# Altium schematic symbol library SparkFun-PowerIC.SCHLIB: 114 symbols
Pins are listed as number, name and electrical type; pins without a type are passive.

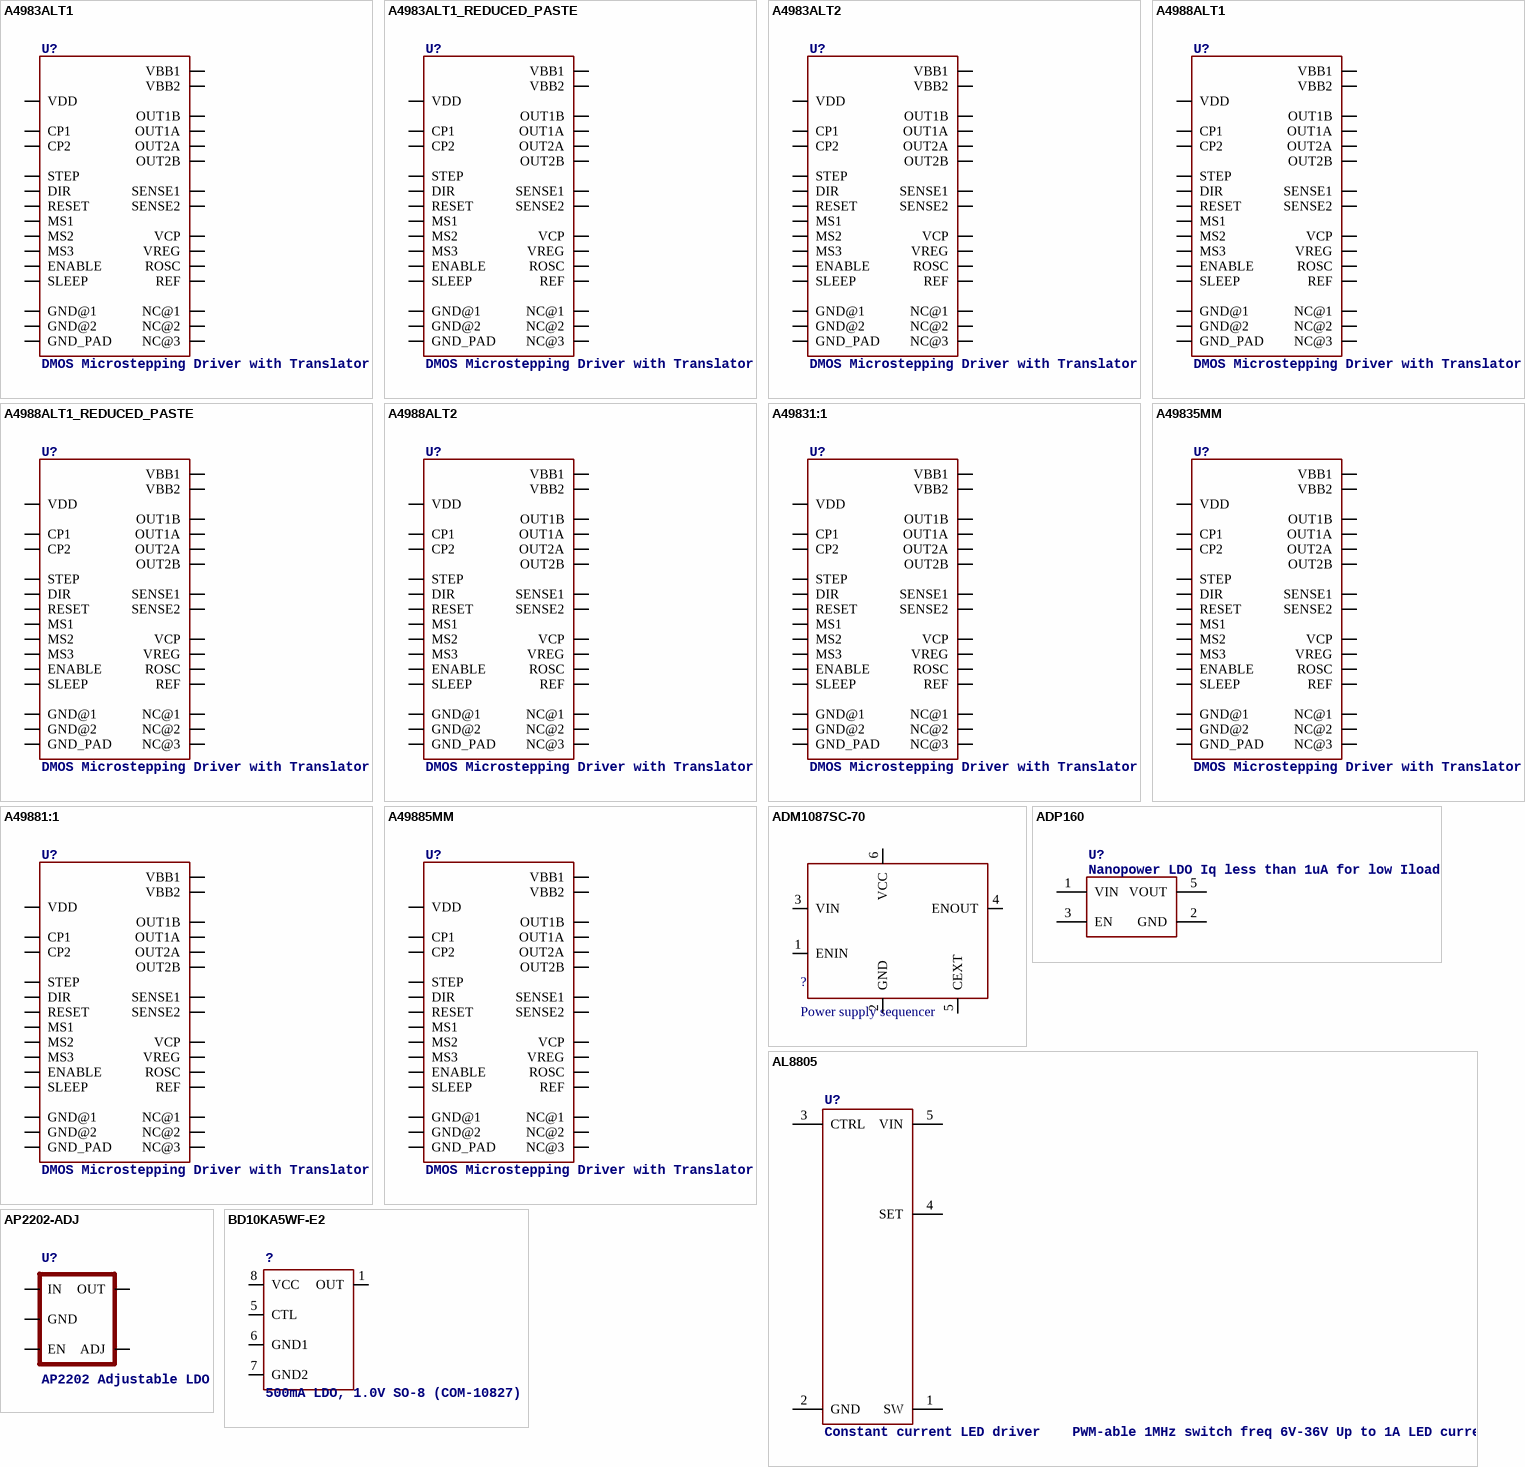
[diagram p0: symbols A4983ALT1 to BD10KA5WF-E2]

## A4983ALT1
designator U?, comment DMOS Microstepping Driver with Translator
PROD_ID: IC-09890
footprint QFN-28-5MM_ALT1
pins: P$1 OUT2B, P$2 ENABLE, P$3 GND@1 (power), P$4 CP1, P$5 CP2, P$6 VCP, P$7 NC@1, P$8 VREG, P$9 MS1, P$10 MS2, P$11 MS3, P$12 RESET, P$13 ROSC, P$14 SLEEP, P$15 VDD (power), P$16 STEP, P$17 REF, P$18 GND@2 (power), P$19 DIR, P$20 NC@2, P$21 OUT1B, P$22 VBB1, P$23 SENSE1, P$24 OUT1A, P$25 NC@3, P$26 OUT2A, P$27 SENSE2, P$28 VBB2, P$29 GND_PAD (power)

## A4983ALT1_REDUCED_PASTE
designator U?, comment DMOS Microstepping Driver with Translator
PROD_ID: IC-09890
footprint QFN-28-5MM_ALT1_REDUCED_PASTE
pins: P$1 OUT2B, P$2 ENABLE, P$3 GND@1 (power), P$4 CP1, P$5 CP2, P$6 VCP, P$7 NC@1, P$8 VREG, P$9 MS1, P$10 MS2, P$11 MS3, P$12 RESET, P$13 ROSC, P$14 SLEEP, P$15 VDD (power), P$16 STEP, P$17 REF, P$18 GND@2 (power), P$19 DIR, P$20 NC@2, P$21 OUT1B, P$22 VBB1, P$23 SENSE1, P$24 OUT1A, P$25 NC@3, P$26 OUT2A, P$27 SENSE2, P$28 VBB2, P$29 GND_PAD (power)

## A4983ALT2
designator U?, comment DMOS Microstepping Driver with Translator
footprint QFN-28-5MM_ALT2
pins: P$1 OUT2B, P$2 ENABLE, P$3 GND@1 (power), P$4 CP1, P$5 CP2, P$6 VCP, P$7 NC@1, P$8 VREG, P$9 MS1, P$10 MS2, P$11 MS3, P$12 RESET, P$13 ROSC, P$14 SLEEP, P$15 VDD (power), P$16 STEP, P$17 REF, P$18 GND@2 (power), P$19 DIR, P$20 NC@2, P$21 OUT1B, P$22 VBB1, P$23 SENSE1, P$24 OUT1A, P$25 NC@3, P$26 OUT2A, P$27 SENSE2, P$28 VBB2, P$29 GND_PAD (power)

## A4988ALT1
designator U?, comment DMOS Microstepping Driver with Translator
PROD_ID: IC-11483
footprint QFN-28-5MM_ALT1
pins: P$1 OUT2B, P$2 ENABLE, P$3 GND@1 (power), P$4 CP1, P$5 CP2, P$6 VCP, P$7 NC@1, P$8 VREG, P$9 MS1, P$10 MS2, P$11 MS3, P$12 RESET, P$13 ROSC, P$14 SLEEP, P$15 VDD (power), P$16 STEP, P$17 REF, P$18 GND@2 (power), P$19 DIR, P$20 NC@2, P$21 OUT1B, P$22 VBB1, P$23 SENSE1, P$24 OUT1A, P$25 NC@3, P$26 OUT2A, P$27 SENSE2, P$28 VBB2, P$29 GND_PAD (power)

## A4988ALT1_REDUCED_PASTE
designator U?, comment DMOS Microstepping Driver with Translator
PROD_ID: IC-11483
footprint QFN-28-5MM_ALT1_REDUCED_PASTE
pins: P$1 OUT2B, P$2 ENABLE, P$3 GND@1 (power), P$4 CP1, P$5 CP2, P$6 VCP, P$7 NC@1, P$8 VREG, P$9 MS1, P$10 MS2, P$11 MS3, P$12 RESET, P$13 ROSC, P$14 SLEEP, P$15 VDD (power), P$16 STEP, P$17 REF, P$18 GND@2 (power), P$19 DIR, P$20 NC@2, P$21 OUT1B, P$22 VBB1, P$23 SENSE1, P$24 OUT1A, P$25 NC@3, P$26 OUT2A, P$27 SENSE2, P$28 VBB2, P$29 GND_PAD (power)

## A4988ALT2
designator U?, comment DMOS Microstepping Driver with Translator
footprint QFN-28-5MM_ALT2
pins: P$1 OUT2B, P$2 ENABLE, P$3 GND@1 (power), P$4 CP1, P$5 CP2, P$6 VCP, P$7 NC@1, P$8 VREG, P$9 MS1, P$10 MS2, P$11 MS3, P$12 RESET, P$13 ROSC, P$14 SLEEP, P$15 VDD (power), P$16 STEP, P$17 REF, P$18 GND@2 (power), P$19 DIR, P$20 NC@2, P$21 OUT1B, P$22 VBB1, P$23 SENSE1, P$24 OUT1A, P$25 NC@3, P$26 OUT2A, P$27 SENSE2, P$28 VBB2, P$29 GND_PAD (power)

## A49831:1
designator U?, comment DMOS Microstepping Driver with Translator
footprint QFN-28-5MM-1:1
pins: P$1 OUT2B, P$2 ENABLE, P$3 GND@1 (power), P$4 CP1, P$5 CP2, P$6 VCP, P$7 NC@1, P$8 VREG, P$9 MS1, P$10 MS2, P$11 MS3, P$12 RESET, P$13 ROSC, P$14 SLEEP, P$15 VDD (power), P$16 STEP, P$17 REF, P$18 GND@2 (power), P$19 DIR, P$20 NC@2, P$21 OUT1B, P$22 VBB1, P$23 SENSE1, P$24 OUT1A, P$25 NC@3, P$26 OUT2A, P$27 SENSE2, P$28 VBB2, P$29 GND_PAD (power)

## A49835MM
designator U?, comment DMOS Microstepping Driver with Translator
footprint QFN-28-5MM
pins: P$1 OUT2B, P$2 ENABLE, P$3 GND@1 (power), P$4 CP1, P$5 CP2, P$6 VCP, P$7 NC@1, P$8 VREG, P$9 MS1, P$10 MS2, P$11 MS3, P$12 RESET, P$13 ROSC, P$14 SLEEP, P$15 VDD (power), P$16 STEP, P$17 REF, P$18 GND@2 (power), P$19 DIR, P$20 NC@2, P$21 OUT1B, P$22 VBB1, P$23 SENSE1, P$24 OUT1A, P$25 NC@3, P$26 OUT2A, P$27 SENSE2, P$28 VBB2, P$29 GND_PAD (power)

## A49881:1
designator U?, comment DMOS Microstepping Driver with Translator
footprint QFN-28-5MM-1:1
pins: P$1 OUT2B, P$2 ENABLE, P$3 GND@1 (power), P$4 CP1, P$5 CP2, P$6 VCP, P$7 NC@1, P$8 VREG, P$9 MS1, P$10 MS2, P$11 MS3, P$12 RESET, P$13 ROSC, P$14 SLEEP, P$15 VDD (power), P$16 STEP, P$17 REF, P$18 GND@2 (power), P$19 DIR, P$20 NC@2, P$21 OUT1B, P$22 VBB1, P$23 SENSE1, P$24 OUT1A, P$25 NC@3, P$26 OUT2A, P$27 SENSE2, P$28 VBB2, P$29 GND_PAD (power)

## A49885MM
designator U?, comment DMOS Microstepping Driver with Translator
footprint QFN-28-5MM
pins: P$1 OUT2B, P$2 ENABLE, P$3 GND@1 (power), P$4 CP1, P$5 CP2, P$6 VCP, P$7 NC@1, P$8 VREG, P$9 MS1, P$10 MS2, P$11 MS3, P$12 RESET, P$13 ROSC, P$14 SLEEP, P$15 VDD (power), P$16 STEP, P$17 REF, P$18 GND@2 (power), P$19 DIR, P$20 NC@2, P$21 OUT1B, P$22 VBB1, P$23 SENSE1, P$24 OUT1A, P$25 NC@3, P$26 OUT2A, P$27 SENSE2, P$28 VBB2, P$29 GND_PAD (power)

## ADM1087SC-70
designator ?, comment Power supply sequencer
footprint SC-70
pins: 1 ENIN, 2 GND, 3 VIN, 4 ENOUT, 5 CEXT, 6 VCC

## ADP160
designator U?, comment Nanopower LDO Iq less than 1uA for low Iload
PROD_ID: VREG-11306
footprint SOT23-5
pins: 1 VIN, 2 GND, 3 EN, 5 VOUT

## AL8805
designator U?, comment Constant current LED driver    PWM-able 1MHz switch freq 6V-36V Up to 1A LED current
PROD_ID: IC-11626
footprint SOT23-5
pins: 1 SW, 2 GND, 3 CTRL, 4 SET, 5 VIN

## AP2202-ADJ
designator U?, comment AP2202 Adjustable LDO Diodes Inc small, low-cost LDO 150mA, 13.2V, less than 200mV dropout
PROD_ID: VREG-12189
footprint SOT23-5
pins: 1 IN, 2 GND, 3 EN, 4 ADJ, 5 OUT

## BD10KA5WF-E2
designator ?, comment 500mA LDO, 1.0V SO-8 (COM-10827)
footprint SO08WIDE
pins: 1 OUT, 5 CTL, 6 GND1, 7 GND2, 8 VCC

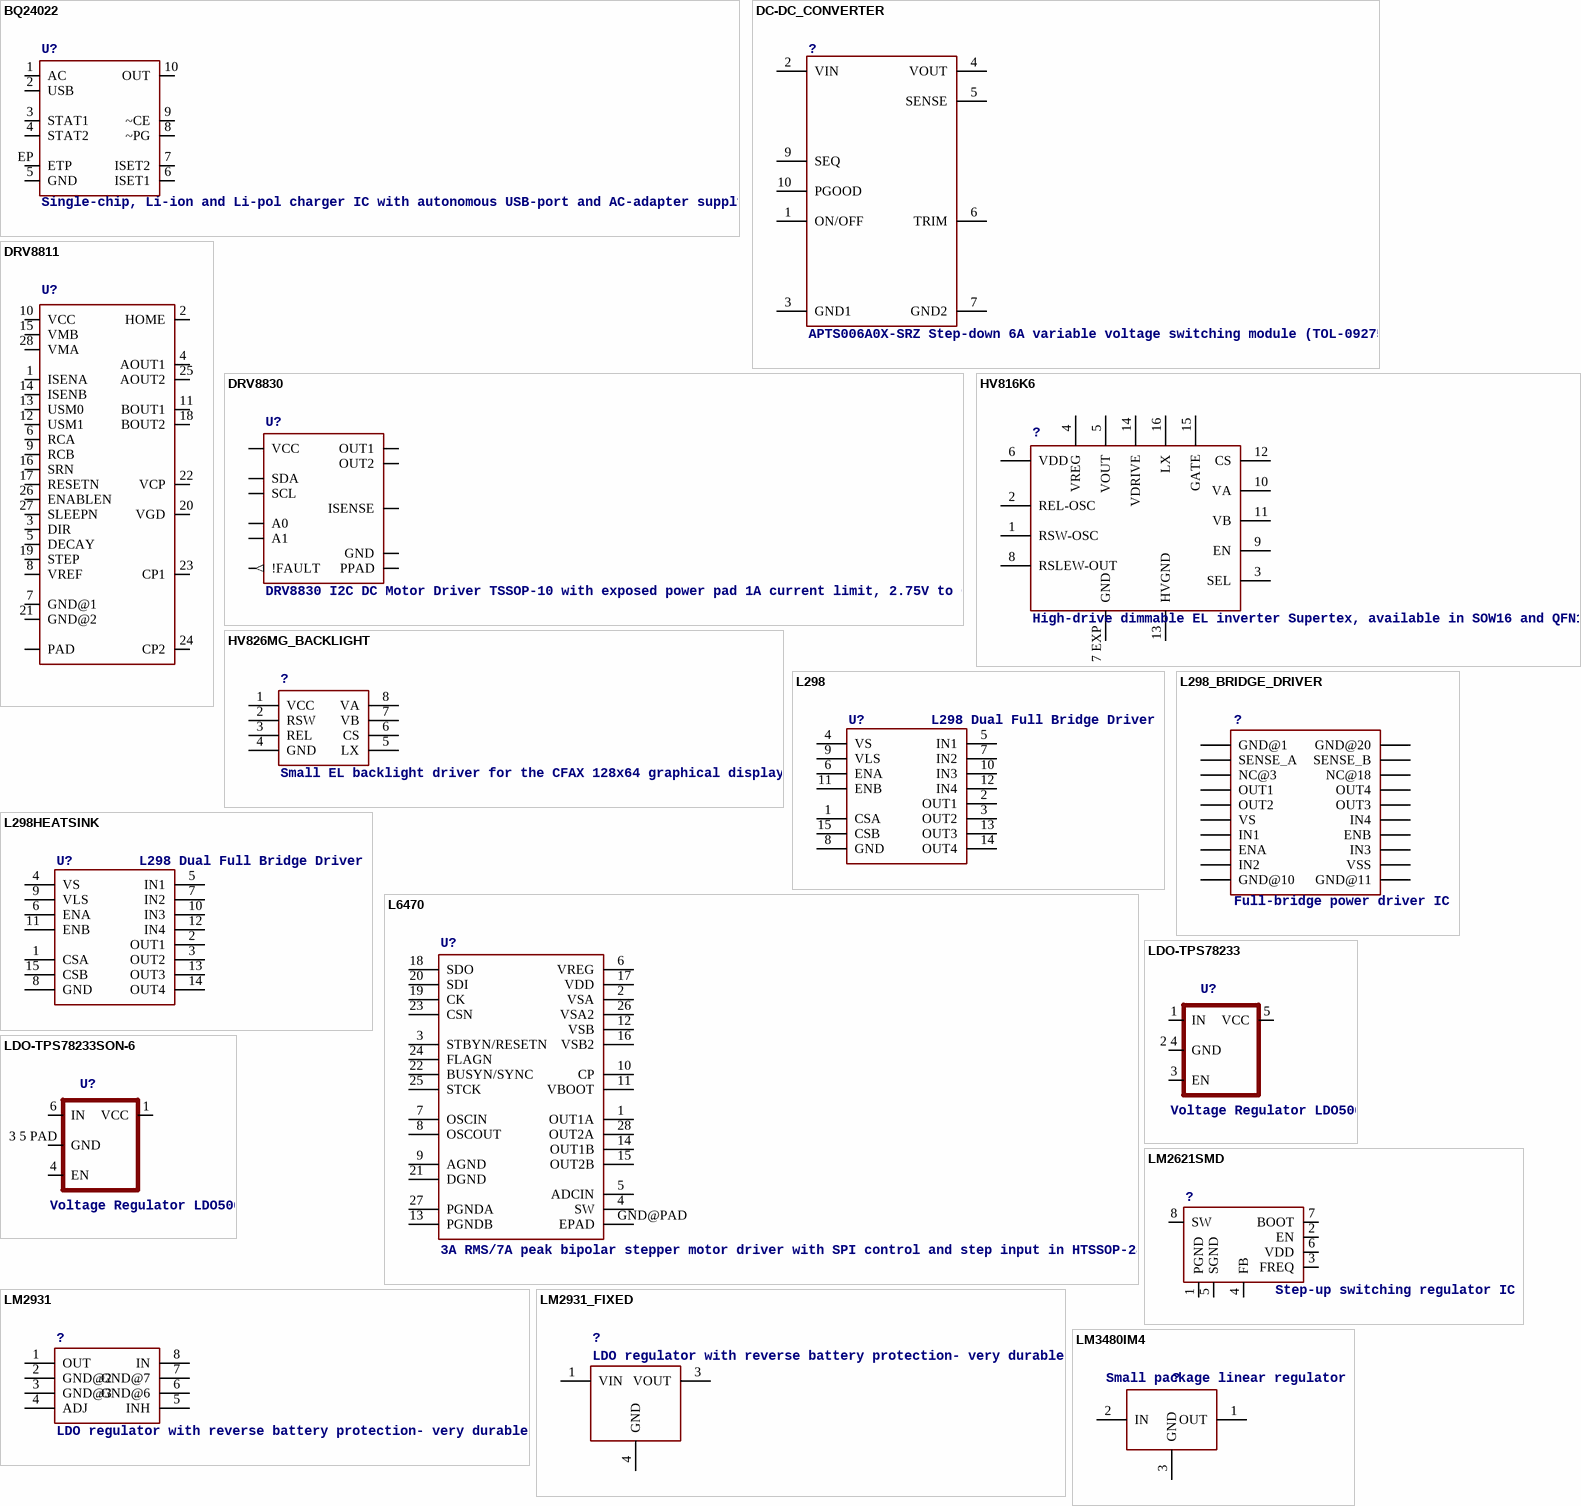
[diagram p1: symbols BQ24022 to LM3480IM4]

## BQ24022
designator U?, comment Single-chip, Li-ion and Li-pol charger IC with autonomous USB-port and AC-adapter supply management. Datasheet: http://focus.ti.com/lit/ds/symlink/bq24022.pdf  Unproven Last modified: 8/16/10
footprint DRC-10
pins: 1 AC, 2 USB, 3 STAT1, 4 STAT2, 5 GND, 6 ISET1, 7 ISET2, 8 ~PG, 9 ~CE, 10 OUT, EP ETP

## DC-DC_CONVERTER
designator ?, comment APTS006A0X-SRZ Step-down 6A variable voltage switching module (TOL-09275)
footprint DC-DC_CONVERTER
pins: 1 ON/OFF, 2 VIN, 3 GND1, 4 VOUT, 5 SENSE, 6 TRIM, 7 GND2, 9 SEQ, 10 PGOOD

## DRV8811
designator U?
PROD_ID: IC-12375
footprint HTSSOP28
pins: 1 ISENA, 2 HOME, 3 DIR, 4 AOUT1, 5 DECAY, 6 RCA, 7 GND@1, 8 VREF, 9 RCB, 10 VCC, 11 BOUT1, 12 USM1, 13 USM0, 14 ISENB, 15 VMB, 16 SRN, 17 RESETN, 18 BOUT2, 19 STEP, 20 VGD, 21 GND@2, 22 VCP, 23 CP1, 24 CP2, 25 AOUT2, 26 ENABLEN, 27 SLEEPN, 28 VMA, GND@10 GND@11 GND@12 GND@13 GND@14 GND@15 GND@16 GND@17 GND@18 GND@19 GND@20 GND@21 GND@22 GND@23 GND@24 GND@25 GND@26 GND@27 GND@28 GND@29 GND@30 GND@PAD PAD

## DRV8830
designator U?, comment DRV8830 I2C DC Motor Driver TSSOP-10 with exposed power pad 1A current limit, 2.75V to 6.8V
PROD_ID: IC-11646
footprint MSOP-10-GNDPAD
pins: 1 OUT2 (power), 2 ISENSE, 3 OUT1 (power), 4 VCC (power), 5 GND (power), 6 !FAULT (out), 7 A0, 8 A1, 9 SDA, 10 SCL, GND PPAD (power)

## HV816K6
designator ?, comment High-drive dimmable EL inverter Supertex, available in SOW16 and QFN16
footprint QFN16-4X4
pins: 1 RSW-OSC, 2 REL-OSC, 3 SEL, 4 VREG, 5 VOUT, 6 VDD, 7 EXP GND, 8 RSLEW-OUT, 9 EN, 10 VA, 11 VB, 12 CS, 13 HVGND, 14 VDRIVE, 15 GATE, 16 LX

## HV826MG_BACKLIGHT
designator ?, comment Small EL backlight driver for the CFAX 128x64 graphical display.
footprint MSOP8
pins: 1 VCC, 2 RSW, 3 REL (power), 4 GND (power), 5 LX, 6 CS, 7 VB, 8 VA

## L298
designator U?, comment L298 Dual Full Bridge Driver
footprint MULTIWATT15
pins: 1 CSA, 2 OUT1, 3 OUT2, 4 VS, 5 IN1, 6 ENA, 7 IN2, 8 GND, 9 VLS, 10 IN3, 11 ENB, 12 IN4, 13 OUT3, 14 OUT4, 15 CSB

## L298_BRIDGE_DRIVER
designator ?, comment Full-bridge power driver IC
footprint POWERSO20
pins: 1 GND@1, 2 SENSE_A, 3 NC@3, 4 OUT1, 5 OUT2, 6 VS, 7 IN1, 8 ENA, 9 IN2, 10 GND@10, 11 GND@11, 12 VSS, 13 IN3, 14 ENB, 15 IN4, 16 OUT3, 17 OUT4, 18 NC@18, 19 SENSE_B, 20 GND@20

## L298HEATSINK
designator U?, comment L298 Dual Full Bridge Driver
footprint MULTIWATT15_6400BGHEATSINK
pins: 1 CSA, 2 OUT1, 3 OUT2, 4 VS, 5 IN1, 6 ENA, 7 IN2, 8 GND, 9 VLS, 10 IN3, 11 ENB, 12 IN4, 13 OUT3, 14 OUT4, 15 CSB

## L6470
designator U?, comment 3A RMS/7A peak bipolar stepper motor driver with SPI control and step input in HTSSOP-28 package. IC-10648
PROD_ID: IC-10648
footprint HTSSOP28
pins: 1 OUT1A, 2 VSA, 3 STBYN/RESETN, 4 SW, 5 ADCIN, 6 VREG, 7 OSCIN, 8 OSCOUT, 9 AGND, 10 CP, 11 VBOOT, 12 VSB, 13 PGNDB, 14 OUT1B, 15 OUT2B, 16 VSB2, 17 VDD, 18 SDO, 19 CK, 20 SDI, 21 DGND, 22 BUSYN/SYNC, 23 CSN, 24 FLAGN, 25 STCK, 26 VSA2, 27 PGNDA, 28 OUT2A, GND@PAD EPAD

## LDO-TPS78233
designator U?, comment Voltage Regulator LDO500nA Ground Current, 150mA, Ultra-Low Quiescent Current Low-Dropout Linear Regulator.
footprint SOT23-5
pins: 1 IN, 2 4 GND, 3 EN, 5 VCC (oe)

## LDO-TPS78233SON-6
designator U?, comment Voltage Regulator LDO500nA Ground Current, 150mA, Ultra-Low Quiescent Current Low-Dropout Linear Regulator.
footprint SON-6-DRV
pins: 1 VCC (oe), 3 5 PAD GND, 4 EN, 6 IN

## LM2621SMD
designator ?, comment Step-up switching regulator IC
footprint MSOP-8
pins: 1 PGND, 2 EN, 3 FREQ, 4 FB, 5 SGND, 6 VDD, 7 BOOT, 8 SW

## LM2931
designator ?, comment LDO regulator with reverse battery protection- very durable!
footprint SO08
pins: 1 OUT, 2 GND@2, 3 GND@3, 4 ADJ, 5 INH, 6 GND@6, 7 GND@7, 8 IN

## LM2931_FIXED
designator ?, comment LDO regulator with reverse battery protection- very durable!
footprint DPAK
pins: 1 VIN, 3 VOUT, 4 GND

## LM3480IM4
designator ?, comment Small package linear regulator
footprint SOT23-3
pins: 1 OUT, 2 IN, 3 GND

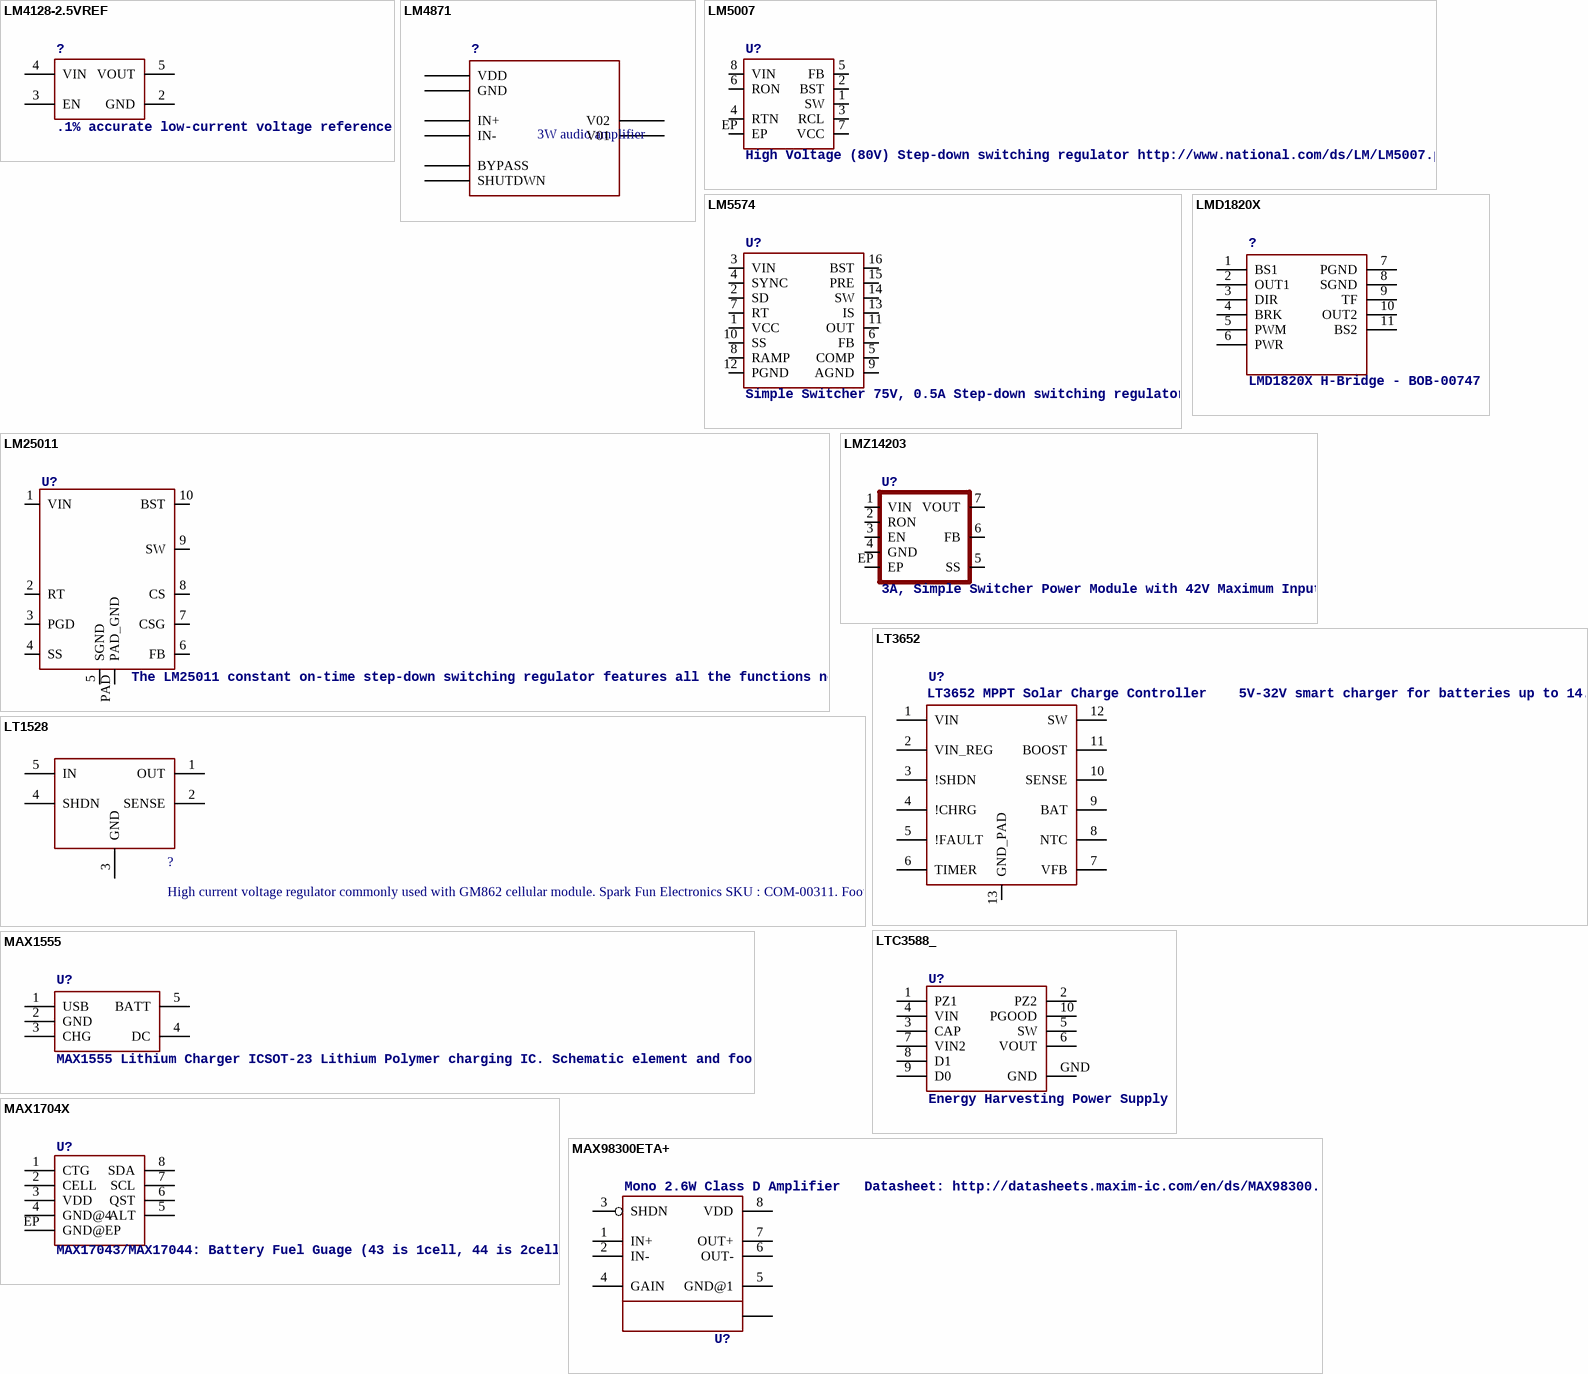
[diagram p2: symbols LM4128-2.5VREF to MAX98300ETA+]

## LM4128-2.5VREF
designator ?, comment .1% accurate low-current voltage reference
footprint SOT23-5
pins: 2 GND, 3 EN, 4 VIN, 5 VOUT

## LM4871
designator ?, comment 3W audio amplifier
footprint SO08
pins: 1 SHUTDWN, 2 BYPASS, 3 IN+, 4 IN-, 5 V01, 6 VDD, 7 GND, 8 V02

## LM5007
designator U?, comment High Voltage (80V) Step-down switching regulator http://www.national.com/ds/LM/LM5007.pdf
footprint MSOP-8-EP
pins: 1 SW, 2 BST, 3 RCL, 4 RTN, 5 FB, 6 RON, 7 VCC, 8 VIN, EP

## LM5574
designator U?, comment Simple Switcher 75V, 0.5A Step-down switching regulator
footprint TSSOP-16
pins: 1 VCC, 2 SD, 3 VIN, 4 SYNC, 5 COMP, 6 FB, 7 RT, 8 RAMP, 9 AGND, 10 SS, 11 OUT, 12 PGND, 13 IS, 14 SW, 15 PRE, 16 BST

## LM25011
designator U?, comment The LM25011 constant on-time step-down switching regulator features all the functions needed to implement a low-cost, efficient, buck bias regulator capable of supplying up to 2 A of load current. This high-voltage regulator contains an N-Channel Buck switch, a startup regulator, current limit detection, and internal ripple control.
PROD_ID: IC-12528
footprint HVSS0P-10
pins: 1 VIN, 2 RT, 3 PGD, 4 SS, 5 SGND, 6 FB, 7 CSG, 8 CS, 9 SW, 10 BST, PAD PAD_GND

## LMD1820X
designator ?, comment LMD1820X H-Bridge - BOB-00747
footprint TO-220-11LEAD
pins: 1 BS1, 2 OUT1, 3 DIR, 4 BRK, 5 PWM, 6 PWR, 7 PGND, 8 SGND, 9 TF, 10 OUT2, 11 BS2

## LMZ14203
designator U?, comment 3A, Simple Switcher Power Module with 42V Maximum Input
footprint TO-PMOD-7
pins: 1 VIN, 2 RON, 3 EN, 4 GND, 5 SS, 6 FB, 7 VOUT, EP

## LT1528
designator ?, comment High current voltage regulator commonly used with GM862 cellular module. Spark Fun Electronics SKU : COM-00311. Footprint may need to have the large paste aperature reduced.
footprint Q5-DD
pins: 1 OUT, 2 SENSE, 3 GND, 4 SHDN, 5 IN

## LT3652
designator U?, comment LT3652 MPPT Solar Charge Controller    5V-32V smart charger for batteries up to 14.4V
footprint MSOP-12_GND
pins: 1 VIN, 2 VIN_REG, 3 !SHDN, 4 !CHRG, 5 !FAULT, 6 TIMER, 7 VFB, 8 NTC, 9 BAT, 10 SENSE, 11 BOOST, 12 SW, 13 GND_PAD

## LTC3588_
designator U?, comment Energy Harvesting Power Supply
footprint MSOP-10-GNDPAD
pins: 1 PZ1, 2 PZ2, 3 CAP, 4 VIN, 5 SW, 6 VOUT, 7 VIN2, 8 D1, 9 D0, 10 PGOOD, GND

## MAX1555
designator U?, comment MAX1555 Lithium Charger ICSOT-23 Lithium Polymer charging IC. Schematic element and footprint proven. Spark Fun Electronics SKU : COM-00674
footprint SOT23-5
pins: 1 USB, 2 GND, 3 CHG, 4 DC, 5 BATT

## MAX1704X
designator U?, comment MAX17043/MAX17044: Battery Fuel Guage (43 is 1cell, 44 is 2cell)
PROD-ID: IC-10399
footprint TDFN-8
pins: 1 CTG, 2 CELL, 3 VDD, 4 GND@4, 5 ALT, 6 QST, 7 SCL, 8 SDA, EP GND@EP

## MAX98300ETA+
designator U?, comment Mono 2.6W Class D Amplifier   Datasheet: http://datasheets.maxim-ic.com/en/ds/MAX98300.pdf   The MAX98300 mono 2.6W Class D amplifier provides Class AB audio performance with Class D efficiency. This device offers five selectable gain settings (0dB, 3dB, 6dB, 9dB, and 12dB) set by a single gain-select input (GAIN). Active emissions-limiting edge-rate and overshoot control circuitry greatly reduces EMI. A patented filterless spread-spectrum modulation scheme eliminates the need for output filtering found in traditional Class D devices. These features reduce application component count. The MAX98300 industry-leading 0.78mA at 3.7V (1.1mA at 5V) quiescent current extends battery life in portable applications. The MAX98300 is available in an 8-pin TDFN-EP (2mm x 2mm x 0.8mm) and a 9-bump (1.2mm x 1.2mm) WLP. Both packages are specified over the extended -40NC to +85NC temperature range.
footprint 8-TDFN-EP
pins: 1 IN+, 2 IN-, 3 SHDN, 4 GAIN (power), 5 GND@1 (power), 6 OUT-, 7 OUT+, 8 VDD (power), 9 GND@2 (power)

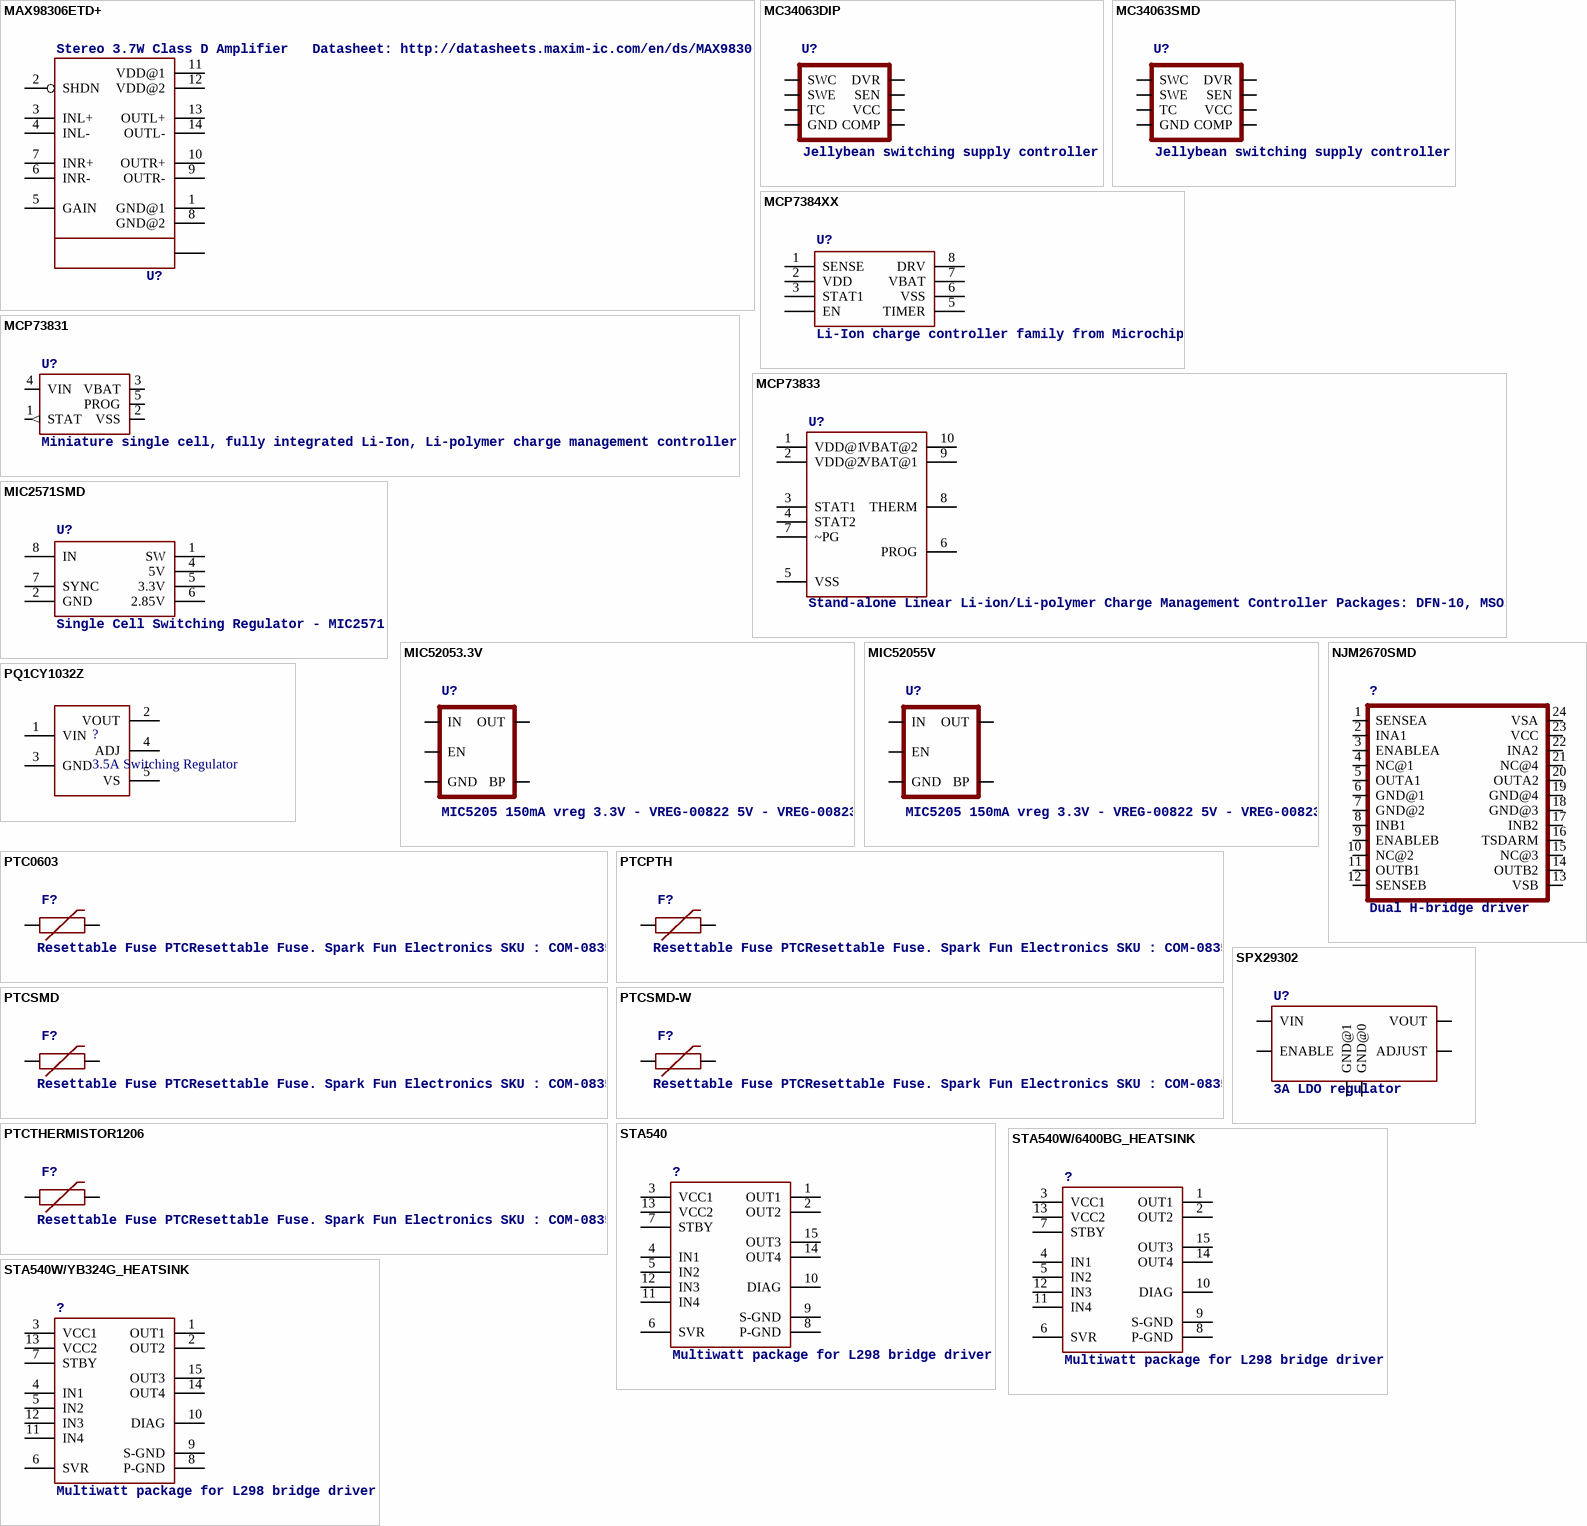
[diagram p3: symbols MAX98306ETD+ to STA540W/YB324G_HEATSINK]

## MAX98306ETD+
designator U?, comment Stereo 3.7W Class D Amplifier   Datasheet: http://datasheets.maxim-ic.com/en/ds/MAX98306.pdf   The MAX98306 stereo 3.7W Class D amplifier provides Class AB audio performance with Class D efficiency. This device offers five selectable gain settings (6dB, 9dB, 12dB, 15dB, and 18dB) set by a single gain-select input (GAIN). Active emissions limiting, edge-rate, and overshoot control circuitry combined with a filterless spread-spectrum modulation scheme (SSM) provide excellent EMI performance while eliminating the need for output filtering found in traditional Class D devices. These features reduce application component count. The IC's 2.0mA quiescent current with a 3.7V supply extends battery life in portable applications. The IC is available in a 14-pin TDFN (3mm x 3mm x 0.75mm) package specified over the extended -40NC to +85NC temperature range.
footprint 14-TDFN
pins: 1 GND@1 (power), 2 SHDN, 3 INL+, 4 INL-, 5 GAIN, 6 INR-, 7 INR+, 8 GND@2 (power), 9 OUTR-, 10 OUTR+, 11 VDD@1 (power), 12 VDD@2 (power), 13 OUTL+, 14 OUTL-, 15 GND@3 (power)

## MC34063DIP
designator U?, comment Jellybean switching supply controller
footprint DIP-08
pins: 1 SWC, 2 SWE, 3 TC, 4 GND, 5 COMP, 6 VCC, 7 SEN, 8 DVR

## MC34063SMD
designator U?, comment Jellybean switching supply controller
footprint SO08
pins: 1 SWC, 2 SWE, 3 TC, 4 GND, 5 COMP, 6 VCC, 7 SEN, 8 DVR

## MCP7384XX
designator U?, comment Li-Ion charge controller family from Microchip
footprint MSOP8
pins: 1 SENSE, 2 VDD, 3 STAT1, 4 EN, 5 TIMER, 6 VSS, 7 VBAT, 8 DRV

## MCP73831
designator U?, comment Miniature single cell, fully integrated Li-Ion, Li-polymer charge management controller http://ww1.microchip.com/downloads/en/DeviceDoc/20001984g.pdf IC-09995
PROD_ID: IC-09995
footprint SOT23-5
pins: 1 STAT (out), 2 VSS (power), 3 VBAT (power), 4 VIN (power), 5 PROG

## MCP73833
designator U?, comment Stand-alone Linear Li-ion/Li-polymer Charge Management Controller Packages: DFN-10, MSOP-10  Last modified: 8/17/10 Unproven!
footprint MSOP-10
pins: 1 VDD@1, 2 VDD@2, 3 STAT1, 4 STAT2, 5 VSS, 6 PROG, 7 ~PG, 8 THERM, 9 VBAT@1, 10 VBAT@2

## MIC2571SMD
designator U?, comment Single Cell Switching Regulator - MIC2571
footprint MSOP-8
pins: 1 SW, 2 GND, 4 5V, 5 3.3V, 6 2.85V, 7 SYNC, 8 IN

## MIC52053.3V
designator U?, comment MIC5205 150mA vreg 3.3V - VREG-00822 5V - VREG-00823
PROD_ID: VREG-00822
footprint SOT23-5
pins: 1 IN, 2 GND, 3 EN, 4 BP, 5 OUT

## MIC52055V
designator U?, comment MIC5205 150mA vreg 3.3V - VREG-00822 5V - VREG-00823
PROD_ID: VREG-00823
footprint SOT23-5
pins: 1 IN, 2 GND, 3 EN, 4 BP, 5 OUT

## NJM2670SMD
designator ?, comment Dual H-bridge driver
footprint SO-24W
pins: 1 SENSEA, 2 INA1, 3 ENABLEA, 4 NC@1, 5 OUTA1 (power), 6 GND@1 (power), 7 GND@2, 8 INB1, 9 ENABLEB, 10 NC@2, 11 OUTB1, 12 SENSEB, 13 VSB, 14 OUTB2, 15 NC@3, 16 TSDARM, 17 INB2, 18 GND@3, 19 GND@4 (power), 20 OUTA2 (power), 21 NC@4, 22 INA2, 23 VCC, 24 VSA

## PQ1CY1032Z
designator ?, comment 3.5A Switching Regulator
footprint Q5-DD_SPX29300
pins: 1 VIN, 2 VOUT, 3 GND, 4 ADJ, 5 VS

## PTC0603
designator F?, comment Resettable Fuse PTCResettable Fuse. Spark Fun Electronics SKU : COM-08357
footprint 0603
pins: 1, 2

## PTCPTH
designator F?, comment Resettable Fuse PTCResettable Fuse. Spark Fun Electronics SKU : COM-08357
footprint PTC
pins: P$1 1, P$2 2

## PTCSMD
designator F?, comment Resettable Fuse PTCResettable Fuse. Spark Fun Electronics SKU : COM-08357
PROD_ID: RES-11150
footprint PTC-1206
pins: 1, 2

## PTCSMD-W
designator F?, comment Resettable Fuse PTCResettable Fuse. Spark Fun Electronics SKU : COM-08357
footprint PTC-1206-WIDE
pins: 1, 2

## PTCTHERMISTOR1206
designator F?, comment Resettable Fuse PTCResettable Fuse. Spark Fun Electronics SKU : COM-08357
PROD_ID: RES-08585
footprint PTC-1206
pins: 1, 2

## SPX29302
designator U?, comment 3A LDO regulator
PROD_ID: VREG-08337
footprint Q5-DD_SPX29300
pins: 1 ENABLE, 2 VIN, 3 GND@1, 4 VOUT, 5 ADJUST, 6 GND@0

## STA540
designator ?, comment Multiwatt package for L298 bridge driver
footprint MULTIWATT15
pins: 1 OUT1, 2 OUT2, 3 VCC1, 4 IN1, 5 IN2, 6 SVR, 7 STBY, 8 P-GND, 9 S-GND, 10 DIAG, 11 IN4, 12 IN3, 13 VCC2, 14 OUT4, 15 OUT3

## STA540W/6400BG_HEATSINK
designator ?, comment Multiwatt package for L298 bridge driver
footprint MULTIWATT15_6400BGHEATSINK
pins: 1 OUT1, 2 OUT2, 3 VCC1, 4 IN1, 5 IN2, 6 SVR, 7 STBY, 8 P-GND, 9 S-GND, 10 DIAG, 11 IN4, 12 IN3, 13 VCC2, 14 OUT4, 15 OUT3

## STA540W/YB324G_HEATSINK
designator ?, comment Multiwatt package for L298 bridge driver
footprint MULTIWATT15_YB324GHEATSINK
pins: 1 OUT1, 2 OUT2, 3 VCC1, 4 IN1, 5 IN2, 6 SVR, 7 STBY, 8 P-GND, 9 S-GND, 10 DIAG, 11 IN4, 12 IN3, 13 VCC2, 14 OUT4, 15 OUT3

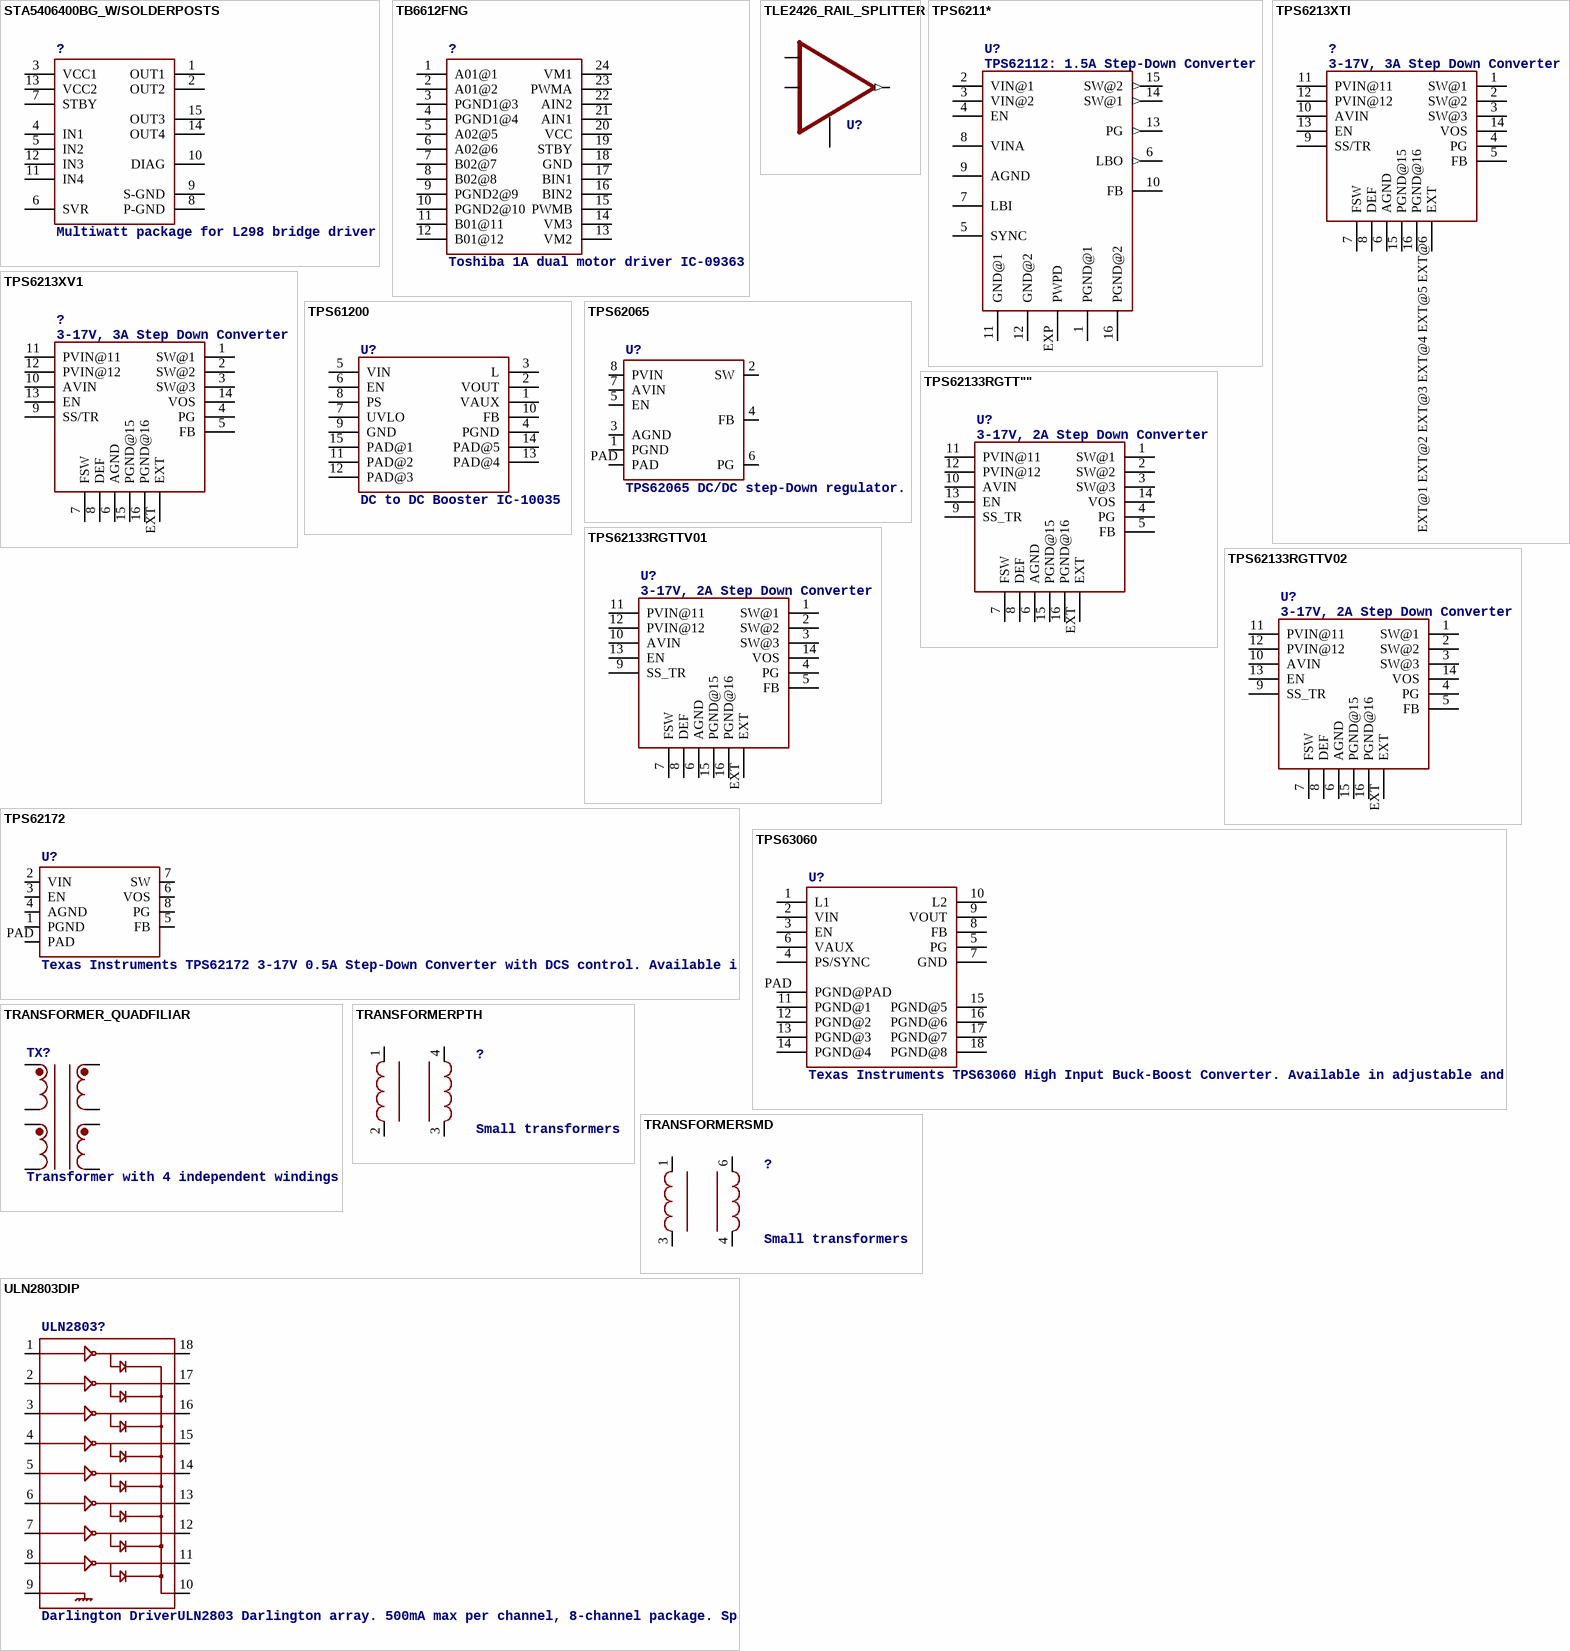
[diagram p4: symbols STA5406400BG_W/SOLDERPOSTS to ULN2803DIP]

## STA5406400BG_W/SOLDERPOSTS
designator ?, comment Multiwatt package for L298 bridge driver
footprint MULTIWATT15_6400BGHEATSINK_2
pins: 1 OUT1, 2 OUT2, 3 VCC1, 4 IN1, 5 IN2, 6 SVR, 7 STBY, 8 P-GND, 9 S-GND, 10 DIAG, 11 IN4, 12 IN3, 13 VCC2, 14 OUT4, 15 OUT3

## TB6612FNG
designator ?, comment Toshiba 1A dual motor driver IC-09363
PROD_ID: IC-09363
footprint SSOP24
pins: 1 A01@1, 2 A01@2, 3 PGND1@3, 4 PGND1@4, 5 A02@5, 6 A02@6, 7 B02@7, 8 B02@8, 9 PGND2@9, 10 PGND2@10, 11 B01@11, 12 B01@12, 13 VM2, 14 VM3, 15 PWMB, 16 BIN2, 17 BIN1, 18 GND, 19 STBY, 20 VCC, 21 AIN1, 22 AIN2, 23 PWMA, 24 VM1

## TLE2426_RAIL_SPLITTER
designator U?
PROD_ID: VREG-12334
footprint SO08
pins: 1 OUT (out), 2 COM, 3 IN, 8 NR

## TPS6211*
designator U?, comment TPS62112: 1.5A Step-Down Converter
footprint QFN16-4X4
pins: 1 PGND@1 (power), 2 VIN@1 (power), 3 VIN@2 (power), 4 EN, 5 SYNC, 6 LBO (out), 7 LBI, 8 VINA (power), 9 AGND (power), 10 FB, 11 GND@1 (power), 12 GND@2 (power), 13 PG (out), 14 SW@1 (out), 15 SW@2 (out), 16 PGND@2 (power), EXP PWPD (power)

## TPS6213XTI
designator ?, comment 3-17V, 3A Step Down Converter
footprint QFN16-3X3MM_TI
pins: 1 SW@1, 2 SW@2, 3 SW@3, 4 PG, 5 FB, 6 AGND, 7 FSW, 8 DEF, 9 SS/TR, 10 AVIN, 11 PVIN@11, 12 PVIN@12, 13 EN, 14 VOS, 15 PGND@15, 16 PGND@16, EXT@1 EXT@2 EXT@3 EXT@4 EXT@5 EXT@6 EXT

## TPS6213XV1
designator ?, comment 3-17V, 3A Step Down Converter
PROD_ID: IC-11630
footprint QFN16-3X3MM
pins: 1 SW@1, 2 SW@2, 3 SW@3, 4 PG, 5 FB, 6 AGND, 7 FSW, 8 DEF, 9 SS/TR, 10 AVIN, 11 PVIN@11, 12 PVIN@12, 13 EN, 14 VOS, 15 PGND@15, 16 PGND@16, EXT

## TPS61200
designator U?, comment DC to DC Booster IC-10035
PROD_ID: IC-10035
footprint QFN-10_PAD
pins: 1 VAUX, 2 VOUT, 3 L, 4 PGND (oe), 5 VIN (oe), 6 EN, 7 UVLO, 8 PS, 9 GND (oe), 10 FB, 11 PAD@2 (oe), 12 PAD@3 (oe), 13 PAD@4 (oe), 14 PAD@5 (oe), 15 PAD@1 (oe)

## TPS62065
designator U?, comment TPS62065 DC/DC step-Down regulator.
PROD_ID: IC-12273
footprint WSON-8-PAD
pins: 1 PGND, 2 SW, 3 AGND, 4 FB, 5 EN, 6 PG, 7 AVIN, 8 PVIN, PAD

## TPS62133RGTT""
designator U?, comment 3-17V, 2A Step Down Converter
PROD_ID: IC-11155
footprint QFN16-3X3MM_1:1_V03
pins: 1 SW@1, 2 SW@2, 3 SW@3, 4 PG, 5 FB, 6 AGND, 7 FSW, 8 DEF, 9 SS_TR, 10 AVIN, 11 PVIN@11, 12 PVIN@12, 13 EN, 14 VOS, 15 PGND@15, 16 PGND@16, EXT

## TPS62133RGTTV01
designator U?, comment 3-17V, 2A Step Down Converter
footprint QFN16-3X3MM
pins: 1 SW@1, 2 SW@2, 3 SW@3, 4 PG, 5 FB, 6 AGND, 7 FSW, 8 DEF, 9 SS_TR, 10 AVIN, 11 PVIN@11, 12 PVIN@12, 13 EN, 14 VOS, 15 PGND@15, 16 PGND@16, EXT

## TPS62133RGTTV02
designator U?, comment 3-17V, 2A Step Down Converter
footprint QFN16-3X3MM_1:1_V02
pins: 1 SW@1, 2 SW@2, 3 SW@3, 4 PG, 5 FB, 6 AGND, 7 FSW, 8 DEF, 9 SS_TR, 10 AVIN, 11 PVIN@11, 12 PVIN@12, 13 EN, 14 VOS, 15 PGND@15, 16 PGND@16, EXT

## TPS62172
designator U?, comment Texas Instruments TPS62172 3-17V 0.5A Step-Down Converter with DCS control. Available in adjustable and fixed output voltage versions.  Is packaged in an 8-pin WSON package measuring 2 × 2 mm (DSG).   See a 3.3V fixed output version of this chip in action on the Electric Imp Breakout Board.  Datasheet
PROD_ID: IC-11307
footprint WSON-8-PAD
pins: 1 PGND, 2 VIN, 3 EN, 4 AGND, 5 FB, 6 VOS, 7 SW, 8 PG, PAD

## TPS63060
designator U?, comment Texas Instruments TPS63060 High Input Buck-Boost Converter. Available in adjustable and fixed output voltage versions.  Is packaged in a 10-pin PWSON package measuring about 3 x 3 mm.   Datasheet
footprint QFN-10_PAD-8
pins: 1 L1, 2 VIN, 3 EN, 4 PS/SYNC, 5 PG, 6 VAUX, 7 GND, 8 FB, 9 VOUT, 10 L2, 11 PGND@1, 12 PGND@2, 13 PGND@3, 14 PGND@4, 15 PGND@5, 16 PGND@6, 17 PGND@7, 18 PGND@8, PAD PGND@PAD

## TRANSFORMER_QUADFILIAR
designator TX?, comment Transformer with 4 independent windings
footprint COILCRAFT_DA230X
pins: P$1 1, P$2 2, P$3 3, P$4 4, P$5 5, P$6 6, P$7 7, P$8 8

## TRANSFORMERPTH
designator ?, comment Small transformers
footprint TRANSFORMER
pins: 1, 2, 3, 4

## TRANSFORMERSMD
designator ?, comment Small transformers
footprint TRANSFORMER_SMD
pins: 1, 3 2, 4 3, 6 4

## ULN2803DIP
designator ULN2803?, comment Darlington DriverULN2803 Darlington array. 500mA max per channel, 8-channel package. Spark Fun Electronics SKU : COM-00312
footprint DIL18
pins: 1, 2, 3, 4, 5, 6, 7, 8, 9, 10, 11, 12, 13, 14, 15, 16, 17, 18

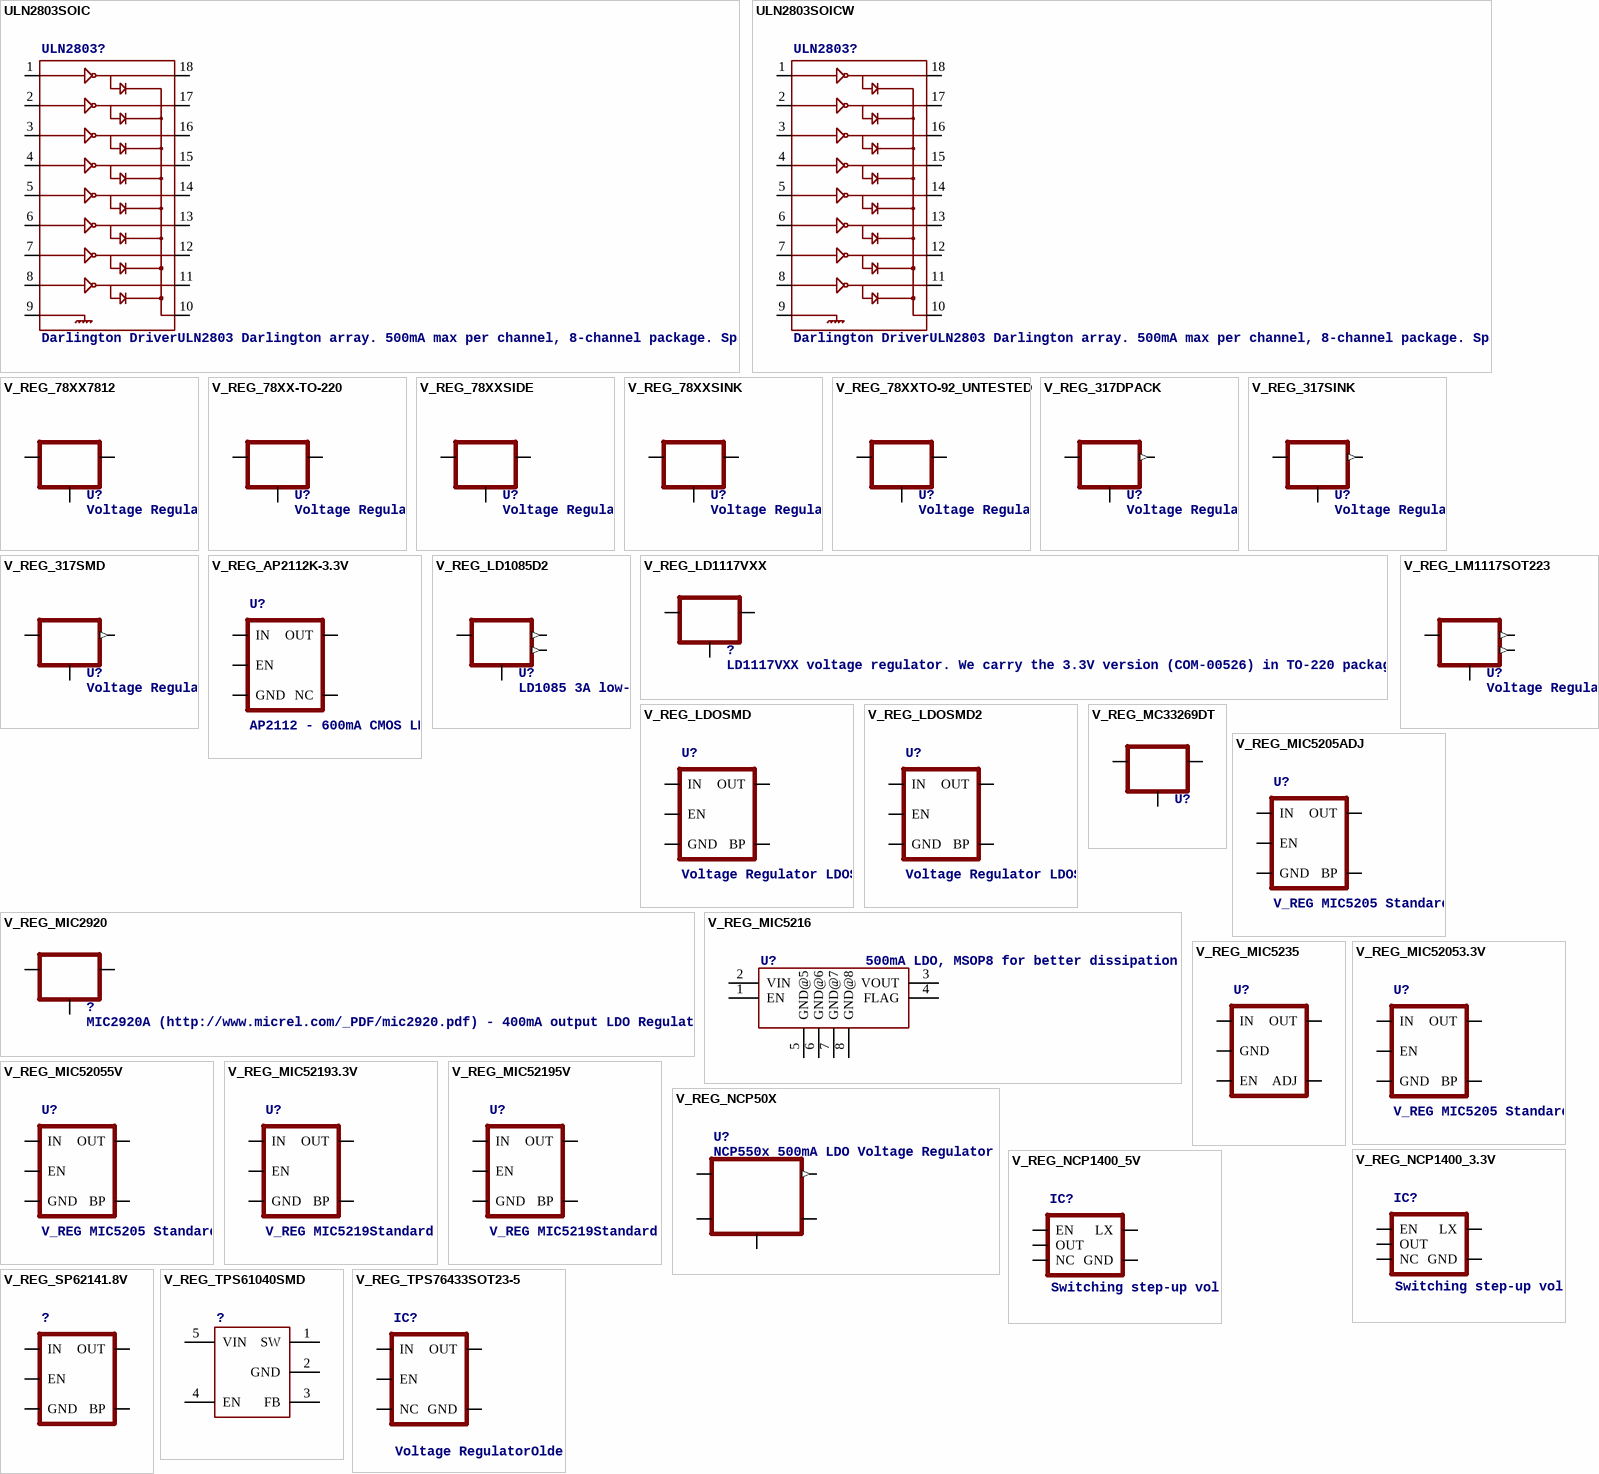
[diagram p5: symbols ULN2803SOIC to V_REG_TPS76433SOT23-5]

## ULN2803SOIC
designator ULN2803?, comment Darlington DriverULN2803 Darlington array. 500mA max per channel, 8-channel package. Spark Fun Electronics SKU : COM-00312
footprint SO018
pins: 1, 2, 3, 4, 5, 6, 7, 8, 9, 10, 11, 12, 13, 14, 15, 16, 17, 18

## ULN2803SOICW
designator ULN2803?, comment Darlington DriverULN2803 Darlington array. 500mA max per channel, 8-channel package. Spark Fun Electronics SKU : COM-00312
footprint SO18L
pins: 1, 2, 3, 4, 5, 6, 7, 8, 9, 10, 11, 12, 13, 14, 15, 16, 17, 18

## V_REG_78XX7812
designator U?, comment Voltage RegulatorStandard 78xx regulator. IGO (Input Ground Output). Spark Fun Electronics SKU : COM-00107
PROD_ID: VREG-12370
footprint TO-252
pins: 1 IN, 2 OUT, 3 GND

## V_REG_78XX-TO-220
designator U?, comment Voltage RegulatorStandard 78xx regulator. IGO (Input Ground Output). Spark Fun Electronics SKU : COM-00107
PROD_ID: VREG-08450; SF_ID: COM-00107
footprint TO-220-ALT
pins: GND, IN, OUT

## V_REG_78XXSIDE
designator U?, comment Voltage RegulatorStandard 78xx regulator. IGO (Input Ground Output). Spark Fun Electronics SKU : COM-00107
footprint 78XXL
pins: GND, IN, OUT

## V_REG_78XXSINK
designator U?, comment Voltage RegulatorStandard 78xx regulator. IGO (Input Ground Output). Spark Fun Electronics SKU : COM-00107
footprint TO220-IGO
pins: GND, IN, OUT

## V_REG_78XXTO-92_UNTESTED
designator U?, comment Voltage RegulatorStandard 78xx regulator. IGO (Input Ground Output). Spark Fun Electronics SKU : COM-00107
footprint TO-92
pins: 1 OUT, 2 GND, 3 IN

## V_REG_317DPACK
designator U?, comment Voltage RegulatorStandard LM317 adjustable voltage regulator. AOI (Adjust Output Input). Google 'LM317 Calculator' for easy to use app to get the two resistor values needed. 240/720 for 5V output. 240/390 for 3.3V output. Spark Fun Electronics SKU : COM-00527
PROD_ID: IC-09888
footprint V-REG_DPACK
pins: 1 ADJ, 3 IN, 4 OUT (out)

## V_REG_317SINK
designator U?, comment Voltage RegulatorStandard LM317 adjustable voltage regulator. AOI (Adjust Output Input). Google 'LM317 Calculator' for easy to use app to get the two resistor values needed. 240/720 for 5V output. 240/390 for 3.3V output. Spark Fun Electronics SKU : COM-00527
footprint TO220-ADJ
pins: ADJ, IN, OUT (out)

## V_REG_317SMD
designator U?, comment Voltage RegulatorStandard LM317 adjustable voltage regulator. AOI (Adjust Output Input). Google 'LM317 Calculator' for easy to use app to get the two resistor values needed. 240/720 for 5V output. 240/390 for 3.3V output. Spark Fun Electronics SKU : COM-00527
footprint SOT223
pins: 1 ADJ, 2 OUT (out), 3 IN

## V_REG_AP2112K-3.3V
designator U?, comment AP2112 - 600mA CMOS LDO Regulator w/ Enable    The AP2112 is CMOS process low dropout linear regulator with enable function, the regulator delivers a guaranteed 600mA (min.) continuous load current.   Features  Output Voltage Accuracy: ±1.5%   Output Current: 600mA (Min.)   Foldback Short Current Protection: 50mA   Enable Function to Turn ON/OFF VOUT  Low Dropout Voltage (3.3V): 250mV (Typ.) @IOUT=600mA   Excellent Load Regulation: 0.2%/A (Typ.)   Excellent Line Regulation: 0.02%/V (Typ.)   Low Quiescent Current: 55μA (Typ.)  Low Standby Current: 0.01μA (Typ.)  Low Output Noise: 50μVRMS   PSRR: 100Hz -65dB, 1kHz -65dB    OTSD Protection   Stable  with  1.0μF Flexible Cap: Ceramic, Tantalum and Aluminum Electrolytic   Operation Temperature Range: -40°C to 85°C   ESD: MM 400V, HBM 4000V
PROD_ID: VREG-12457
footprint SOT23-5
pins: 1 IN, 2 GND, 3 EN, 4 NC, 5 OUT

## V_REG_LD1085D2
designator U?, comment LD1085 3A low-drop positive voltage regulator, adjustable The LD1085xx is a low drop voltage regulator able to provide up to 3 A of output current. Dropout is guaranteed at a maximum of 1.2 V at the maximum output current, decreasing at lower loads. The LD1085xx is pin to pin compatible with the older 3-terminal adjustable regulators, but has better performances in term of drop and output tolerance.  Available Packages D2PAK/A - 3-pin w/ tabs, SMD
footprint D2PACK/A
pins: 1 ADJ, 2 OUT (out), 3 IN, TAB OUT@1 (out)

## V_REG_LD1117VXX
designator ?, comment LD1117VXX voltage regulator. We carry the 3.3V version (COM-00526) in TO-220 package.
footprint 78XXL
pins: GND OUT, IN GND, OUT IN

## V_REG_LDOSMD
designator U?, comment Voltage Regulator LDOStandard 150mA LDO voltage regulator in SOT-23 layout. Micrel part MIC5205. BP (by-pass) pin is used to lower output noise with 470pF cap.
footprint SOT23-5
pins: 1 IN, 2 GND, 3 EN, 4 BP, 5 OUT

## V_REG_LDOSMD2
designator U?, comment Voltage Regulator LDOStandard 150mA LDO voltage regulator in SOT-23 layout. Micrel part MIC5205. BP (by-pass) pin is used to lower output noise with 470pF cap.
PROD_ID: VREG-08428
footprint SC70
pins: 1 IN, 2 GND, 3 EN, 4 BP, 5 OUT

## V_REG_LM1117SOT223
designator U?, comment Voltage Regulator LM1117Standard adjustable voltage regulator but in SMD form. Spark Fun Electronics SKU : COM-00595
PROD_ID: VREG-08170
footprint SOT223
pins: 1 ADJ, 2 OUT (out), 3 IN, 4 OUT@1 (out)

## V_REG_MC33269DT
designator U?
footprint DPAK
pins: 1 GND, 3 IN, 4 OUT

## V_REG_MIC2920
designator ?, comment MIC2920A (http://www.micrel.com/_PDF/mic2920.pdf) - 400mA output LDO Regulator
footprint SOT223
pins: 1 IN, 2 GND, 3 OUT

## V_REG_MIC5205ADJ
designator U?, comment V_REG MIC5205 Standard 3.3V, 5V, and Adjustable 150mA LDO voltage regulator in SOT-23 layout. Micrel part MIC5205. BP (by-pass) pin is used to lower output noise with 470pF cap, may be left open. On the adjustable version BP is used to set output.
PROD_ID: VREG-12594
footprint SOT23-5
pins: 1 IN, 2 GND, 3 EN, 4 BP, 5 OUT

## V_REG_MIC5216
designator U?, comment 500mA LDO, MSOP8 for better dissipation
PROD_ID: IC-09527
footprint MSOP8
pins: 1 EN, 2 VIN, 3 VOUT, 4 FLAG, 5 GND@5, 6 GND@6, 7 GND@7, 8 GND@8

## V_REG_MIC5235
designator U?
footprint SOT23-5
pins: 1 IN, 2 GND, 3 EN, 4 ADJ, 5 OUT

## V_REG_MIC52053.3V
designator U?, comment V_REG MIC5205 Standard 3.3V, 5V, and Adjustable 150mA LDO voltage regulator in SOT-23 layout. Micrel part MIC5205. BP (by-pass) pin is used to lower output noise with 470pF cap, may be left open. On the adjustable version BP is used to set output.
PROD_ID: VREG-00822
footprint SOT23-5
pins: 1 IN, 2 GND, 3 EN, 4 BP, 5 OUT

## V_REG_MIC52055V
designator U?, comment V_REG MIC5205 Standard 3.3V, 5V, and Adjustable 150mA LDO voltage regulator in SOT-23 layout. Micrel part MIC5205. BP (by-pass) pin is used to lower output noise with 470pF cap, may be left open. On the adjustable version BP is used to set output.
PROD_ID: VREG-00823
footprint SOT23-5
pins: 1 IN, 2 GND, 3 EN, 4 BP, 5 OUT

## V_REG_MIC52193.3V
designator U?, comment V_REG MIC5219Standard 3.3V and 5V 500mA LDO voltage regulator in SOT-23 layout. Micrel part MIC5219. BP (by-pass) pin is used to lower output noise with 470pF cap, may be left open.
PROD_ID: VREG-09872
footprint SOT23-5
pins: 1 IN, 2 GND, 3 EN, 4 BP, 5 OUT

## V_REG_MIC52195V
designator U?, comment V_REG MIC5219Standard 3.3V and 5V 500mA LDO voltage regulator in SOT-23 layout. Micrel part MIC5219. BP (by-pass) pin is used to lower output noise with 470pF cap, may be left open.
PROD_ID: VREG-10107
footprint SOT23-5
pins: 1 IN, 2 GND, 3 EN, 4 BP, 5 OUT

## V_REG_NCP50X
designator U?, comment NCP550x 500mA LDO Voltage Regulator
footprint DPAK-5
pins: ADJ, EN, GND, VIN IN, VOUT OUT (out)

## V_REG_NCP1400_3.3V
designator IC?, comment Switching step-up voltage regulatorNCP1400 switiching regulator takes single cell AA and outputs 100mA at 3.3V or 5V with minimal number of external components.
PROD_ID: IC-10788
footprint SOT23-5
pins: 1 EN, 2 OUT, 3 NC, 4 GND, 5 LX

## V_REG_NCP1400_5V
designator IC?, comment Switching step-up voltage regulatorNCP1400 switiching regulator takes single cell AA and outputs 100mA at 3.3V or 5V with minimal number of external components.
PROD_ID: IC-10787
footprint SOT23-5
pins: 1 EN, 2 OUT, 3 NC, 4 GND, 5 LX

## V_REG_SP62141.8V
designator ?
PROD_ID: VREG-08428
footprint SC70
pins: 1 IN, 2 GND, 3 EN, 4 BP, 5 OUT

## V_REG_TPS61040SMD
designator ?
footprint SOT23-5
pins: 1 SW, 2 GND, 3 FB, 4 EN, 5 VIN

## V_REG_TPS76433SOT23-5
designator IC?, comment Voltage RegulatorOlder TI part. LDO 150mA regulator. No output by-pass cap option. See V_REG_LDO for a better part.
footprint SOT23-5
pins: 1 IN, 2 GND, 3 EN, 4 NC, 5 OUT

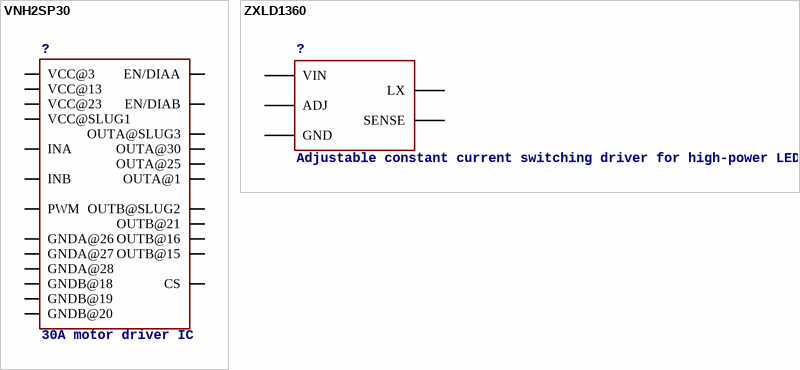
[diagram p6: symbols VNH2SP30 to ZXLD1360]

## VNH2SP30
designator ?, comment 30A motor driver IC
footprint VNH2SP30
pins: 1 OUTA@1, 3 VCC@3, 5 INA, 6 EN/DIAA, 8 PWM, 9 CS, 10 EN/DIAB, 11 INB, 13 VCC@13, 15 OUTB@15, 16 OUTB@16, 18 GNDB@18, 19 GNDB@19, 20 GNDB@20, 21 OUTB@21, 23 VCC@23, 25 OUTA@25, 26 GNDA@26, 27 GNDA@27, 28 GNDA@28, 30 OUTA@30, SLUG1 VCC@SLUG1, SLUG2 OUTB@SLUG2, SLUG3 OUTA@SLUG3

## ZXLD1360
designator ?, comment Adjustable constant current switching driver for high-power LEDs
footprint SOT23-5
pins: 1 LX, 2 GND, 3 ADJ, 4 SENSE, 5 VIN